# EAGLE library part ATTINY412-SSN (library ATTINY412-SSN)
8-bit Microcontrollers - MCU 20MHz, 4KB, SOIC8, Ind 105C, Green, Tube Source: Datasheet <http://www.microchip.com/mymicrochip/filehandler.aspx?ddocname=en599382>
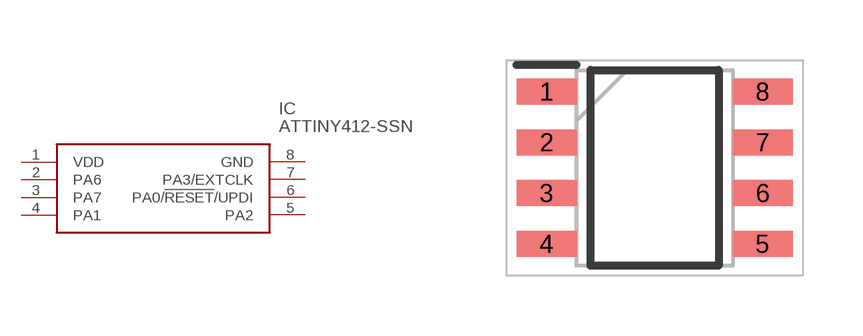
[diagram p0: symbol with the pads of SOIC127P600X175-8N; footprint SOIC127P600X175-8N]

Designator prefix IC

## ATTINY412-SSN (Description: 8-bit Microcontrollers - MCU 20MHz, 4KB, SOIC8, Ind 105C, Green, Tube; Height: 1.75mm; Manufacturer_Name: Microchip; Manufacturer_Part_Number: ATTINY412-SSN; Mouser_Part_Number: 579-ATTINY412-SSN; Mouser_Price-Stock: https://www.mouser.co.uk/ProductDetail/Microchip-Technology/ATTINY412-SSN?qs=3HJ2avRr9PItQG9ZsCamPQ%3D%3D)  [SOIC127P600X175-8N]
1  VDD
2  PA6
3  PA7
4  PA1
5  PA2
6  PA0/!RESET!/UPDI
7  PA3/EXTCLK
8  GND

## Footprint SOIC127P600X175-8N (pad centres in mm)
SOIC -N
smd 1.5 x 0.65: 1 -2.7,1.905; 2 -2.7,0.635; 3 -2.7,-0.635; 4 -2.7,-1.905; 5 2.7,-1.905; 6 2.7,-0.635; 7 2.7,0.635; 8 2.7,1.905